# Altium footprint library Relay HF7FD.PcbLib: 1 footprints
Each footprint in its own frame and in the unit in brackets; x right, y up, seen from the top. Pads: shape width x height; smd on the part's side, far side on the other; paste and mask are expansions set on the pad; w line width, h text height; cw(c..) or ccw(c..) is an arc to the next point about the centre after c.
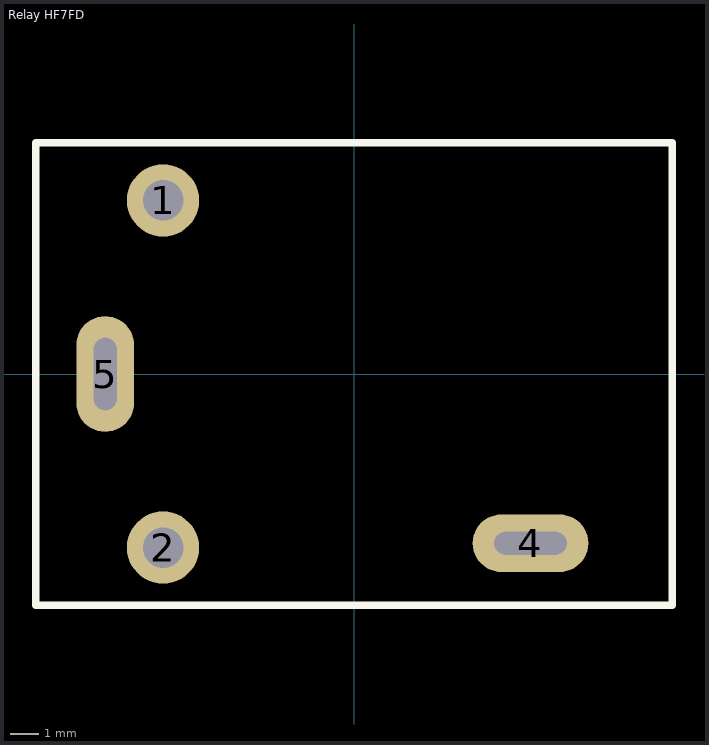
[diagram p0: the footprint, top view; thin cyan lines are the x and y axes]

## Relay HF7FD [mm] "16A Relay"
height 16
pads (4):
  round 2.5 hole 1.4: 1(-6.6,6) 2(-6.6,-6)
  oval 4x2 hole 0.8 slot 2.5 at 0 deg: 4(6.1,-5.85)
  oval 2x4 hole 0.8 slot 2.5 at 90 deg: 5(-8.6,0)
Top Overlay:
  lines w0.254: -11,-8 11,-8 11,8 -11,8 -11,-8
3D body "HF7FD[1].stp": height 16.83, standoff -3.92, extent -11,-8 11,8